# Altium schematic symbol library ICL_connectors_v1.SchLib: 83 symbols
Pins are listed as number, name and electrical type; pins without a type are passive.

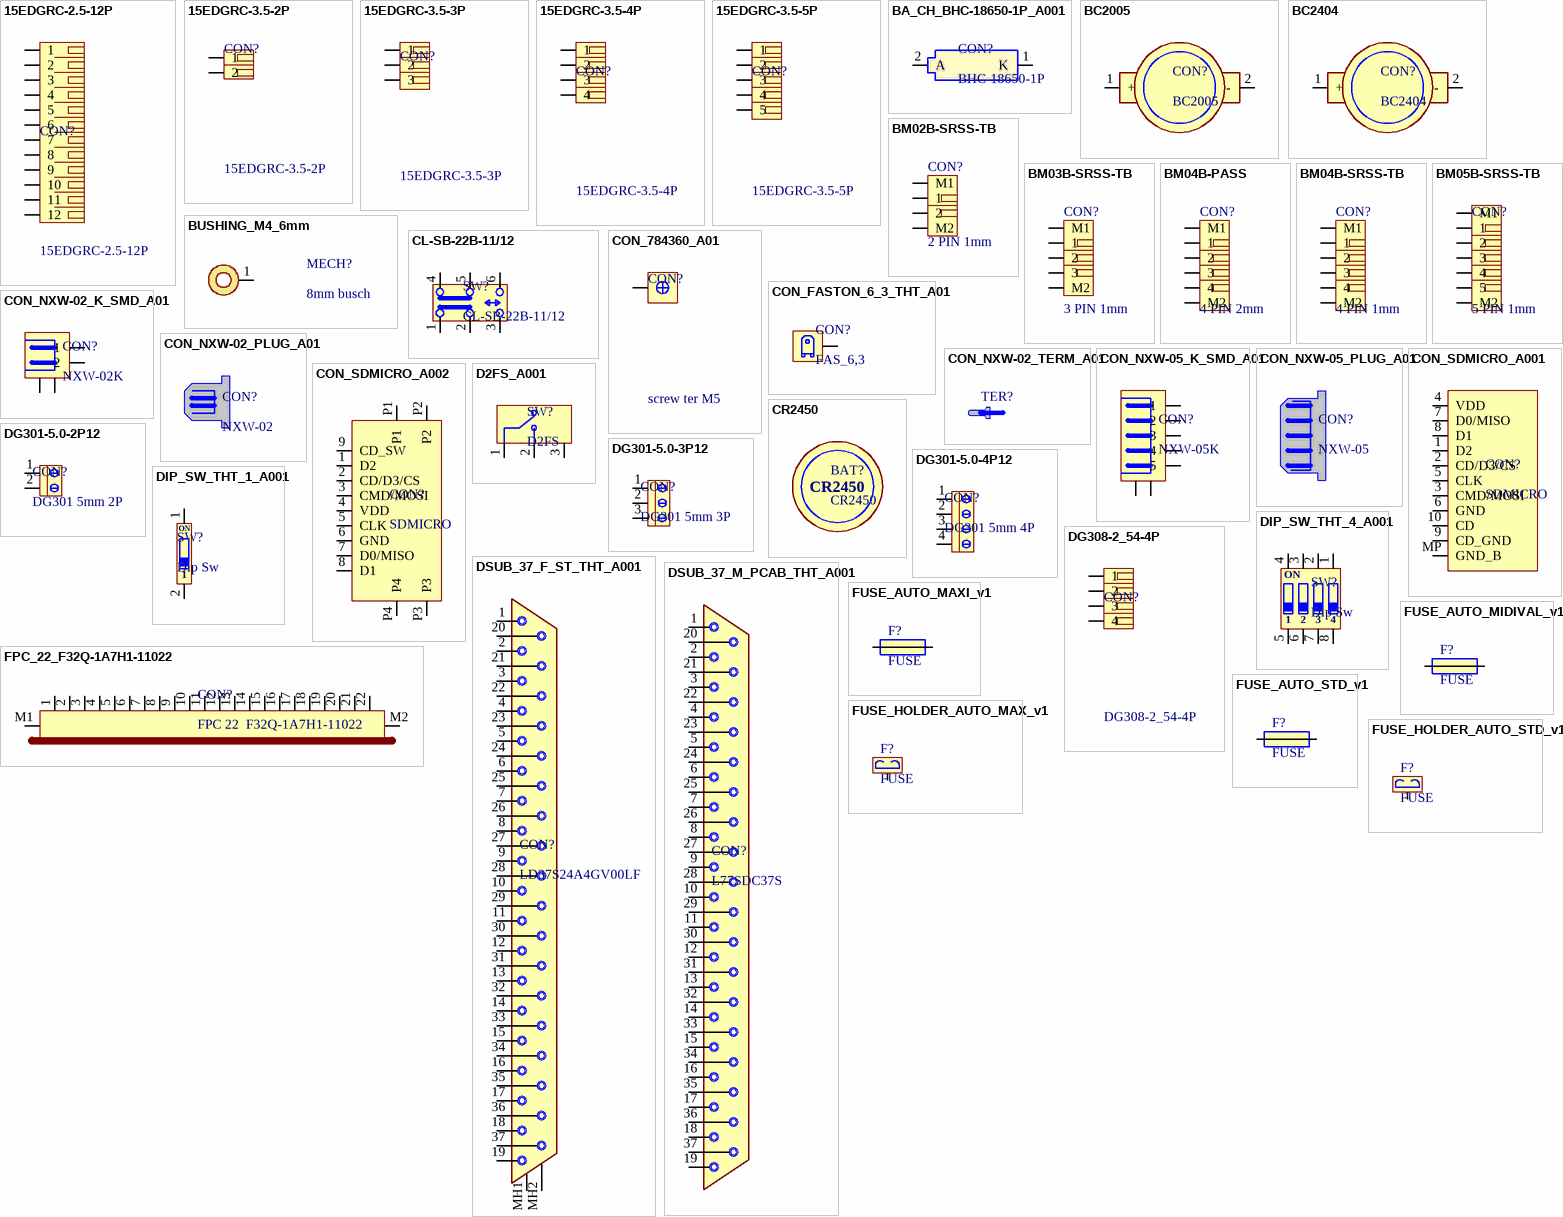
[diagram p0: symbols 15EDGRC-2.5-12P to FUSE_HOLDER_AUTO_STD_v1]

## 15EDGRC-2.5-12P
designator CON?
ICLN: CON_F_THT_2_5_12P_A001
footprint 15EDGRC-2.5-12P (Dexon)
pins: 1, 2, 3, 4, 5, 6, 7, 8, 9, 10, 11, 12

## 15EDGRC-3.5-2P
designator CON?
ICLN: CON_THT_2p_15EDGRC-3.5-2P_A001
footprint 15EDGRC-3.5-02P (Dexon)
pins: 1, 2

## 15EDGRC-3.5-3P
designator CON?
ICLN: CON_THT_3p_15EDGRC-3.5-3P_A001
footprint 15EDGRC-3.5-03P (Dexon)
pins: 1, 2, 3

## 15EDGRC-3.5-4P
designator CON?
ICLN: CON_THT_4p_15EDGRC-3.5-4P_A001
footprint 15EDGRC-3.5-04P (Dexon)
pins: 1, 2, 3, 4

## 15EDGRC-3.5-5P
designator CON?
footprint 15EDGRC-3.5-05P (Dexon)
pins: 1, 2, 3, 4, 5

## BA_CH_BHC-18650-1P_A001
designator CON?, comment BHC-18650-1P
battery holder 18650 1S; ITSN: BA_CH_BHC-18650-1P_THT_A001
footprint BHC-18650-1P (COMF baterry holder 18650 THT 1p)
pins: 1 K, 2 A

## BC2005
designator CON?
smd cr2450 BATTERY HOLDER; ITSN: CON_SMT_CR2450_A001
footprint BC2005 (CR2450)
pins: 1 + (power), 2 - (power)

## BC2404
designator CON?
smd cr2450 BATTERY HOLDER; ITSN: CON_SMT_CR2450_A001
footprint BC2404 (CR2450)
pins: 1 + (power), 2 - (power)

## BM02B-SRSS-TB
designator CON?, comment 2 PIN 1mm
BM02B-SRSS-TB 1MM 2PIN; ITSN: CON_SMT_2PIN_1MM_A001
footprint BM02B-SRSS-TB (JST SH connector 1mm)
pins: 1, 2, M1, M2

## BM03B-SRSS-TB
designator CON?, comment 3 PIN 1mm
BM03B-SRSS-TB 1MM 3PIN; ITSN: CON_SMT_3PIN_1MM_A001
footprint BM03B-SRSS-TB (JST SH connector 1mm)
pins: 1, 2, 3, M1, M2

## BM04B-PASS
designator CON?, comment 4 PIN 2mm
BM04B-PASS-TB 2MM 4PIN; ITSN: nn
footprint BM04B-PASS (JST PA connector 2mm)
pins: 1, 2, 3, 4, M1, M2

## BM04B-SRSS-TB
designator CON?, comment 4 PIN 1mm
BM04B-SRSS-TB 1MM 4PIN; ITSN: CON_SMT_3PIN_1MM_A001
footprint BM04B-SRSS-TB (JST SH connector 1mm)
pins: 1, 2, 3, 4, M1, M2

## BM05B-SRSS-TB
designator CON?, comment 5 PIN 1mm
BM05B-SRSS-TB 1MM 5PIN; ITSN: CON_SMT_5PIN_1MM_A001
footprint BM05B-SRSS-TB (JST SH connector 1mm)
pins: 1, 2, 3, 4, 5, M1, M2

## BUSHING_M4_6mm
designator MECH?, comment 8mm busch
M4 6mm bushing; ICLN: MECHxxx
footprint BUSHING_M4_6mm_SMT_v1 (bushing M4 6mm)
pins: 1

## CL-SB-22B-11/12
designator SW?
ICLN: SW_CL-SB-22B-11_SMD_A001
footprint CL-SB-22B-11/12 (switch side)
pins: 1, 2 C, 3, 4, 5 C, 6

## CON_784360_A01
designator CON?, comment screw ter M5
Screw Mounting Bracket; ICLN: CON_784360_A01
footprint CON_DIEHL_784360_A01 (Screw Mounting Bracket)
pins: 1

## CON_FASTON_6_3_THT_A01
designator CON?, comment FAS_6,3
Faston 6,3mm; ICLN: CON_FAS_6.3_THT_A001
footprint FASTON_6_3_V (Faston 6,3mm pionowy ,sam bez wsowki)
pins: 1

## CON_NXW-02_K_SMD_A01
designator CON?, comment NXW-02K
NXW-02K 2mm SMD; ICLN: CON_NXW-02SMDK_SMD_A001
footprint NXW-02SMDK (2mm angle SMD)
pins: 1, 2, M1, M2

## CON_NXW-02_PLUG_A01
designator CON?, comment NXW-02  (mechanical)
NXW-02 2mm plug, no contact; ICLN: CON_NXW-02PLUG_A001

## CON_NXW-02_TERM_A01
designator TER?, comment NXW-02T  (value not drawn)  (mechanical)
NXW-02 2mm plug, cable terminal; ICLN: CON_NXW-02TERMINAL_A001

## CON_NXW-05_K_SMD_A01
designator CON?, comment NXW-05K
NXW-05K 2mm SMD; ICLN: CON_NXW-05SMDK_SMD_A001
footprint NXW-05SMDK (2mm angle SMD)
pins: 1, 2, 3, 4, 5, M1, M2

## CON_NXW-05_PLUG_A01
designator CON?, comment NXW-05  (mechanical)
NXW-05 2mm plug, no contact; ICLN: CON_NXW-05PLUG_A001

## CON_SDMICRO_A001
designator CON?, comment SDMICRO
MOLEX : 502570-0893; ITSN: CON_MICRO_SD_SMD_A001
footprint SD_micro_MOLEX_5025700893 (MOLEX : 502570-0893)
pins: 1 D2, 2 CD/D3/CS, 3 CMD/MOSI, 4 VDD, 5 CLK, 6 GND, 7 D0/MISO, 8 D1, 9 CD_GND, 10 CD, MP GND_B

## CON_SDMICRO_A002
designator CON?, comment SDMICRO
GCT : MEM2051-00-195-00A; ICLN: CON_MICRO_SD_SMD_A002
footprint SD_micro_GCT_MEM2051-00-195-00A (MOLEX : 502570-0893)
pins: 1 D2, 2 CD/D3/CS, 3 CMD/MOSI, 4 VDD, 5 CLK, 6 GND, 7 D0/MISO, 8 D1, 9 CD_SW, P1, P2, P3, P4

## CR2450
designator BAT?
3V 600mAh Lith.; ITSN: BAT_CR2450_A001
footprint CR2450 (battery CR2450)

## D2FS_A001
designator SW?, comment D2FS
Omron D2FS-FL-N; ITSN: *
footprint D2FS-FL-N_A001 (omron D2FS-FL-Nxx)
pins: 1 COM, 2 NO, 3 NC

## DG301-5.0-2P12
designator CON?, comment DG301 5mm 2P
ICLN: CON_DG301_5.0_2P_A001
footprint DG301-5_0-2P12
pins: 1, 2

## DG301-5.0-3P12
designator CON?, comment DG301 5mm 3P
ICLN: CON_DG301_5.0_3P_A001
footprint DG301-5_0-3P12
pins: 1, 2, 3

## DG301-5.0-4P12
designator CON?, comment DG301 5mm 4P
ICLN: CON_DG301_5.0_4P_A001
footprint DG301-5_0-4P12
pins: 1, 2, 3, 4

## DG308-2_54-4P
designator CON?
zlacze srubowe 4x 2,54mm
footprint DG308-2_54-4P
pins: 1, 2, 3, 4

## DIP_SW_THT_1_A001
designator SW?, comment Dip Sw
ICLN: DIP_SW_THT_1_A001
footprint DIPSW_1_THT_A001
pins: 1, 2
text: ON

## DIP_SW_THT_4_A001
designator SW?, comment Dip Sw
ICLN: DIP_SW_THT_4_A001
footprint DIPSW_4_THT_A001
pins: 1, 2, 3, 4, 5, 6, 7, 8
text: ON

## DSUB_37_F_ST_THT_A001
designator CON?, comment LD37S24A4GV00LF
DSUB 37 pin strate THT female; ICLN: PIN_HEADER_1x4_2,5mm_L5,4_THT_A001
footprint DSUB37_V_THT_A001 (Amphenoll LD37S24A4GV00LF)
pins: 1, 2, 3, 4, 5, 6, 7, 8, 9, 10, 11, 12, 13, 14, 15, 16, 17, 18, 19, 20, 21, 22, 23, 24, 25, 26, 27, 28, 29, 30, 31, 32, 33, 34, 35, 36, 37, MH1, MH2

## DSUB_37_M_PCAB_THT_A001
designator CON?, comment L77SDC37S
DSUB 37 pin strate solder cup male; ICLN: nn
footprint DSUB37_PC_CABLE_A001 (Amphenoll L77SDC37S)
pins: 1, 2, 3, 4, 5, 6, 7, 8, 9, 10, 11, 12, 13, 14, 15, 16, 17, 18, 19, 20, 21, 22, 23, 24, 25, 26, 27, 28, 29, 30, 31, 32, 33, 34, 35, 36, 37

## FPC_22_F32Q-1A7H1-11022
designator CON?, comment FPC 22  F32Q-1A7H1-11022
F32Q-1A7H1-11022; ITSN: CON_FPC22_05_TOP_A001
footprint F32Q-1A7H1-11022 (FPC top 22pin e - 0,5mm)
pins: 1, 2, 3, 4, 5, 6, 7, 8, 9, 10, 11, 12, 13, 14, 15, 16, 17, 18, 19, 20, 21, 22, M1, M2

## FUSE_AUTO_MAXI_v1
designator F?, comment FUSE
MAXI. automotive fuse; ICLN: FUS_AMAXI_A001
footprint FUSE_AUT_MAXI_v1 (maxi fuse automotive)

## FUSE_AUTO_MIDIVAL_v1
designator F?, comment FUSE
MIDIVAL automotive fuse; ICLN: FUS_AMIDIVAL_A001
footprint FUSE_AUT_MIDIVAL_v1 (MIDIVAL  fuse automotive)

## FUSE_AUTO_STD_v1
designator F?, comment FUSE
std. automotive fuse; ICLN: FUS_ASTD_A001
footprint FUSE_AUT_STD_v1 (std fuse automotive)

## FUSE_HOLDER_AUTO_MAX_v1
designator F?, comment FUSE
MAX. automotive fuse holder; ICLN: FUS_AMAX_HOLD_A001
footprint FUSE_AUT_STD_3555_v1 (std automotive fuse holder (1/2))
pins: 1

## FUSE_HOLDER_AUTO_STD_v1
designator F?, comment FUSE
std. automotive fuse holder; ICLN: FUS_ASTD_HOLD_A001
footprint FUSE_AUT_STD_3522_v1 (std automotive fuse holder (1/2))
pins: 1

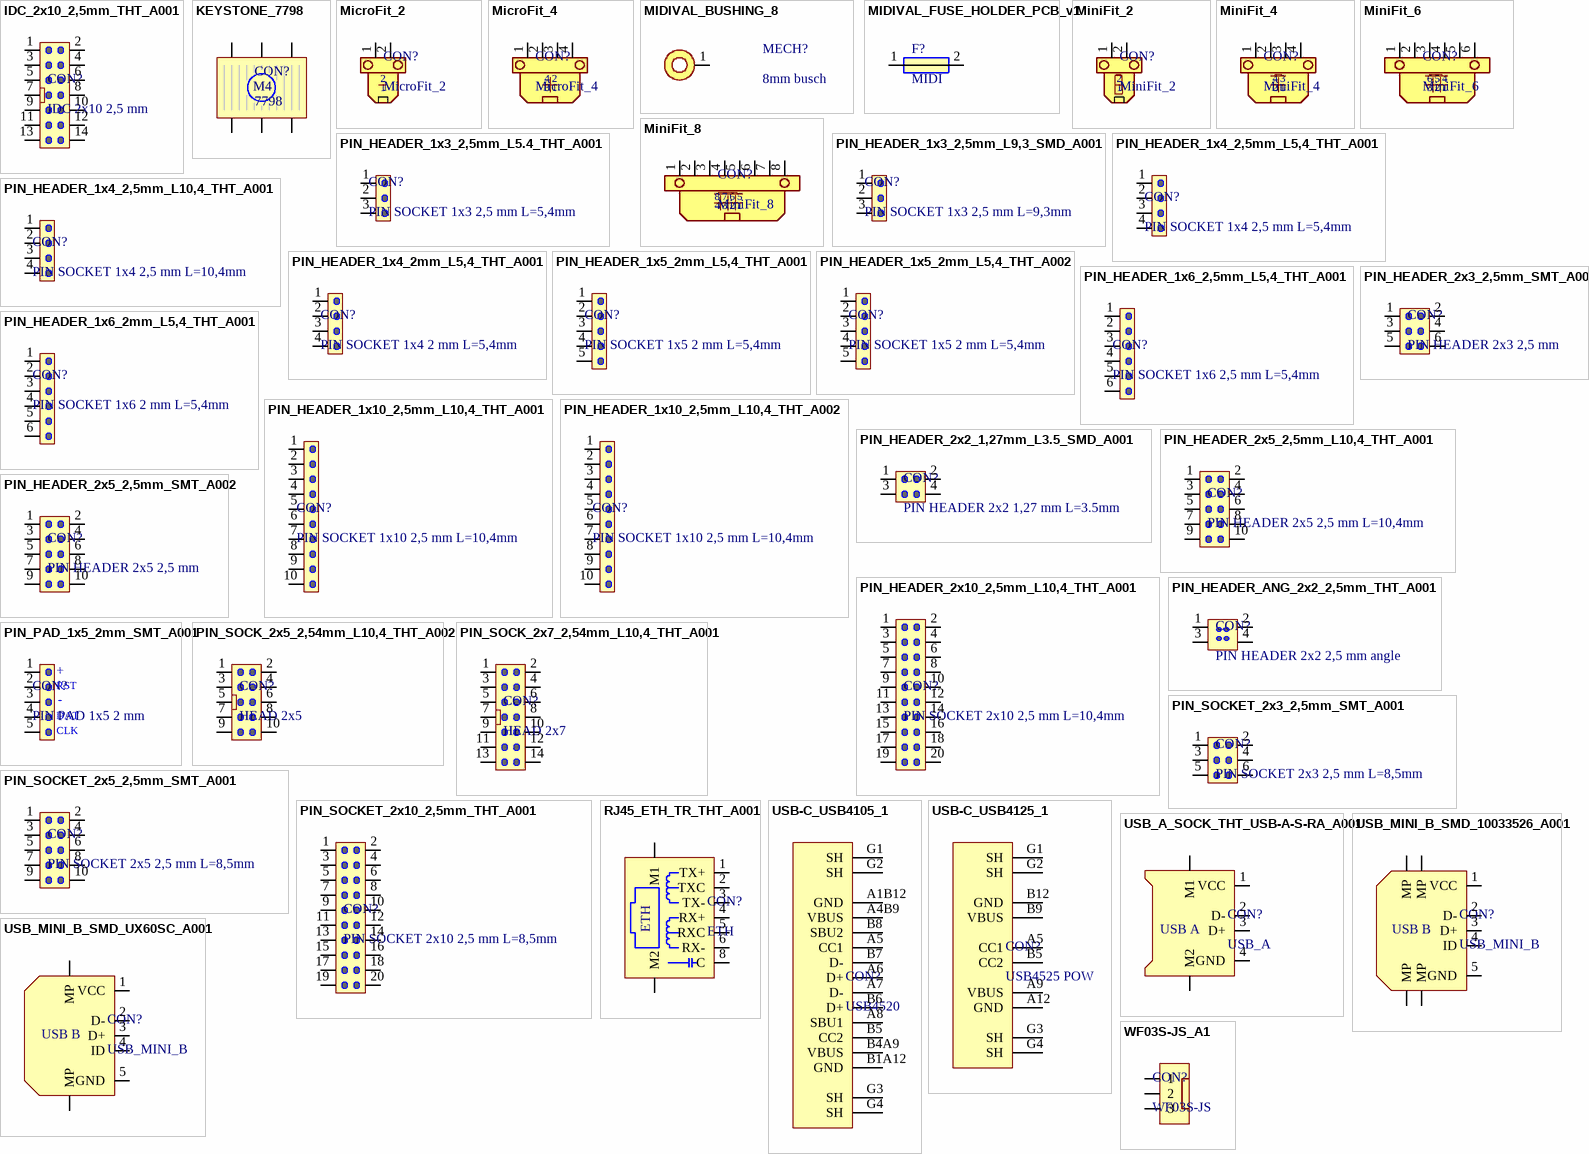
[diagram p1: symbols IDC_2x10_2,5mm_THT_A001 to WF03S-JS_A1]

## IDC_2x10_2,5mm_THT_A001
designator CON?, comment IDC 2x10 2,5 mm
footprint IDC_2.54mm_2x7_THT
pins: 1, 2, 3, 4, 5, 6, 7, 8, 9, 10, 11, 12, 13, 14

## KEYSTONE_7798
designator CON?, comment 7798
M4 30A THT; ICLN: CON_M4_30A_A001
footprint KEYSTONE_7798 (M4 30A)
pins: 1, 2, 3, 4, 5, 6
text: M4

## MicroFit_2
designator CON?
footprint G-MicroFit-2_GK (Gniazdo kontowe MicroiFit 2 piny)
pins: 1, 2

## MicroFit_4
designator CON?
footprint G-MicroFit-4_GK (Gniazdo kontowe MiniFit 4 piny)
pins: 1, 2, 3, 4

## MIDIVAL_BUSHING_8
designator MECH?, comment 8mm busch
MIDIVAL fuse holder bushing; ICLN: MECHxxx
footprint MIDIVAL_BUSHING_8_v1 (bushing for fuse holder)
pins: 1

## MIDIVAL_FUSE_HOLDER_PCB_v1
designator F?, comment MIDI
MIDI VAL fuse; ICLN: FUS_MIDI_A001
footprint MIDIVAL_HOLDER_v1 (midival fuse holder)
pins: 1, 2

## MiniFit_2
designator CON?
footprint G_MINIFIT_JR_2PK
pins: 1, 2

## MiniFit_4
designator CON?
footprint G_MINIFIT_JR_4PK
pins: 1, 2, 3, 4

## MiniFit_6
designator CON?
footprint G_MINIFIT_JR_6PK
pins: 1, 2, 3, 4, 5, 6

## MiniFit_8
designator CON?
footprint G_MINIFIT_JR_8PK
pins: 1, 2, 3, 4, 5, 6, 7, 8

## PIN_HEADER_1x3_2,5mm_L5.4_THT_A001
designator CON?, comment PIN SOCKET 1x3 2,5 mm L=5,4mm
ICLN: PIN_HEADER_1x3_2,5mm_L5,4_THT_A001
footprint PIN_HEADER_1x3_2,5mm_L5_4_THT_A001
pins: 1, 2, 3

## PIN_HEADER_1x3_2,5mm_L9,3_SMD_A001
designator CON?, comment PIN SOCKET 1x3 2,5 mm L=9,3mm
ICLN: PIN_HEADER_1x3_2,5mm_L9,3_SMD_A001
footprint PIN_HEADER_1x3_2,5mm_L9,3_SMD_A001
pins: 1, 2, 3

## PIN_HEADER_1x4_2,5mm_L5,4_THT_A001
designator CON?, comment PIN SOCKET 1x4 2,5 mm L=5,4mm
ICLN: PIN_HEADER_1x4_2,5mm_L5,4_THT_A001
footprint PIN_HEADER_1x4_2,5mm_L5_4_THT_A001
pins: 1, 2, 3, 4

## PIN_HEADER_1x4_2,5mm_L10,4_THT_A001
designator CON?, comment PIN SOCKET 1x4 2,5 mm L=10,4mm
ICLN: PIN_HEADER_1x4_2,5mm_L10,4_THT_A001
footprint PIN_HEADER_1x4_2,5mm_L10,4_THT_A001
pins: 1, 2, 3, 4

## PIN_HEADER_1x4_2mm_L5,4_THT_A001
designator CON?, comment PIN SOCKET 1x4 2 mm L=5,4mm
ICLN: PIN_HEADER_1x5_2mm_L5,4_THT_A001
footprint PIN_HEADER_1x4_2mm_L5_4_THT_A001
pins: 1, 2, 3, 4

## PIN_HEADER_1x5_2mm_L5,4_THT_A001
designator CON?, comment PIN SOCKET 1x5 2 mm L=5,4mm
ICLN: PIN_HEADER_1x5_2mm_L5,4_THT_A001
footprint PIN_HEADER_1x5_2mm_L5_4_THT_A001
pins: 1, 2, 3, 4, 5

## PIN_HEADER_1x5_2mm_L5,4_THT_A002
designator CON?, comment PIN SOCKET 1x5 2 mm L=5,4mm
ICLN: PIN_HEADER_1x5_2mm_L5,4_THT_A001
footprint PIN_HEADER_1x5_2mm_L5_4_THT_A002
pins: 1, 2, 3, 4, 5

## PIN_HEADER_1x6_2,5mm_L5,4_THT_A001
designator CON?, comment PIN SOCKET 1x6 2,5 mm L=5,4mm
ICLN: PIN_HEADER_1x6_2,5mm_L5,4_THT_A001
footprint PIN_HEADER_1x6_2,5mm_L5_4_THT_A001
pins: 1, 2, 3, 4, 5, 6 64

## PIN_HEADER_1x6_2mm_L5,4_THT_A001
designator CON?, comment PIN SOCKET 1x6 2 mm L=5,4mm
ICLN: PIN_HEADER_1x6_2mm_L5,4_THT_A001
footprint PIN_HEADER_1x6_2mm_L5_4_THT_A001
pins: 1, 2, 3, 4, 5, 6

## PIN_HEADER_1x10_2,5mm_L10,4_THT_A001
designator CON?, comment PIN SOCKET 1x10 2,5 mm L=10,4mm
footprint PIN_HEADER_1x10_2,5mm_L10,4_THT_A001
pins: 1, 2, 3, 4, 5, 6, 7, 8, 9, 10

## PIN_HEADER_1x10_2,5mm_L10,4_THT_A002
designator CON?, comment PIN SOCKET 1x10 2,5 mm L=10,4mm
ICLN: PIN_HEADER_1x10_2,5mm_L10,4_THT_A002
footprint PIN_HEADER_1x10_2,5mm_L10,4_THT_A002
pins: 1, 2, 3, 4, 5, 6, 7, 8, 9, 10

## PIN_HEADER_2x2_1,27mm_L3.5_SMD_A001
designator CON?, comment PIN HEADER 2x2 1,27 mm L=3.5mm
footprint PIN_HEADER_2x2_1,27mm_L3.5_SMT_A001
pins: 1, 2, 3, 4

## PIN_HEADER_2x3_2,5mm_SMT_A002
designator CON?, comment PIN HEADER 2x3 2,5 mm
ICLN: CON_PIN_HEA_2x3_SMT_2_54_A002
footprint PIN_HEADER_2x3_2,5mm_SMT_A002
pins: 1, 2, 3, 4, 5, 6

## PIN_HEADER_2x5_2,5mm_L10,4_THT_A001
designator CON?, comment PIN HEADER 2x5 2,5 mm L=10,4mm
footprint PIN_HEADER_2x5_2,5mm_L10,4_THT_A001
pins: 1, 2, 3, 4, 5, 6, 7, 8, 9, 10

## PIN_HEADER_2x5_2,5mm_SMT_A002
designator CON?, comment PIN HEADER 2x5 2,5 mm
ICLN: CON_PIN_HEA_2x5_SMT_2_54_A002
footprint PIN_HEADER_2x5_2,5mm_SMT_A002
pins: 1, 2, 3, 4, 5, 6, 7, 8, 9, 10

## PIN_HEADER_2x10_2,5mm_L10,4_THT_A001
designator CON?, comment PIN SOCKET 2x10 2,5 mm L=10,4mm
footprint PIN_HEADER_2x10_2,5mm_L10,4_THT_A001
pins: 1, 2, 3, 4, 5, 6, 7, 8, 9, 10, 11, 12, 13, 14, 15, 16, 17, 18, 19, 20

## PIN_HEADER_ANG_2x2_2,5mm_THT_A001
designator CON?, comment PIN HEADER 2x2 2,5 mm angle
footprint PIN_HEADER_ANG_2x2_2,5mm_THT_A001
pins: 1, 2, 3, 4

## PIN_PAD_1x5_2mm_SMT_A001
designator CON?, comment PIN PAD 1x5 2 mm
ICLN: NA
footprint PIN_PAD_1x5_2mm_SMT_A01 (programing pcb pad)
pins: 1, 2, 3, 4, 5
text: +; RST; -; DAT; CLK

## PIN_SOCK_2x5_2,54mm_L10,4_THT_A002
designator CON?, comment HEAD 2x5
PIN HEADER 2x5 2,54 mm L=10,4mm; ICLN: CON_PIN_HEA_2x5_THT_2_54_A002
footprint PIN_SOCKET_2x5_2,54mm_L10,4_THT_A002
pins: 1, 2, 3, 4, 5, 6, 7, 8, 9, 10

## PIN_SOCK_2x7_2,54mm_L10,4_THT_A001
designator CON?, comment HEAD 2x7
PIN HEADER 2x7 2,54 mm L=10,4mm; ICLN: CON_PIN_HEA_2x7_THT_2_54_A001
footprint PIN_SOCKET_2x7_2,54mm_L10,4_THT_A001
pins: 1, 2, 3, 4, 5, 6, 7, 8, 9, 10, 11, 12, 13, 14

## PIN_SOCKET_2x3_2,5mm_SMT_A001
designator CON?, comment PIN SOCKET 2x3 2,5 mm L=8,5mm
ICLN: CON_PIN_SOCK_2x3_SMT_2_54_A001
footprint PIN_SOCKET_2x3_2,5mm_L8,5_THT_A001
pins: 1, 2, 3, 4, 5, 6

## PIN_SOCKET_2x5_2,5mm_SMT_A001
designator CON?, comment PIN SOCKET 2x5 2,5 mm L=8,5mm
ICLN: CON_PIN_SOCK_2x5_SMT_2_54_A001
footprint PIN_SOCKET_2x5_2,5mm_L8,5_THT_A001
pins: 1, 2, 3, 4, 5, 6, 7, 8, 9, 10

## PIN_SOCKET_2x10_2,5mm_THT_A001
designator CON?, comment PIN SOCKET 2x10 2,5 mm L=8,5mm
footprint PIN_SOCKET_2x10_2,5mm_L8,5_THT_A001
pins: 1, 2, 3, 4, 5, 6, 7, 8, 9, 10, 11, 12, 13, 14, 15, 16, 17, 18, 19, 20

## RJ45_ETH_TR_THT_A001
designator CON?, comment ETH
ETH + TR 100Tx; ICLN: RJ45_ETH_TR_THT_A001
footprint ETH_TR_RJ45-TRAFO_A001 (Ethernet gniazdo 100Tx)
pins: 1 TX+, 2 TXC, 3 TX-, 4 RX+, 5 RXC, 6 RX-, 8 C, M1, M2

## USB-C_USB4105_1
designator CON?, comment USB4520
ICLN: CON_USB_C_REC_USB4105_A001
footprint USB4105_xx_a_060 (usb C SMD/THT top)
pins: A1B12 GND, A4B9 VBUS, A5 CC1, A6 D+, A7 D-, A8 SBU1, B1A12 GND, B4A9 VBUS, B5 CC2, B6 D+, B7 D-, B8 SBU2, G1 SH, G2 SH, G3 SH, G4 SH

## USB-C_USB4125_1
designator CON?, comment USB4525 POW
Power onlu USB C; ICLN: CON_USB_C_REC_USB4125_A001
footprint USB4125_xx_A_0190 (usb C SMD/THT top power only)
pins: A5 CC1, A9 VBUS, A12 GND, B5 CC2, B9 VBUS, B12 GND, G1 SH, G2 SH, G3 SH, G4 SH

## USB_A_SOCK_THT_USB-A-S-RA_A001
designator CON?, comment USB_A
USB A Socket; ICLN: CON_USB_A_THT_USB-A-S-RA_A001
footprint USB-A-S-RA (USB  A Gniazdo THT)
pins: 1 VCC, 2 D-, 3 D+, 4 GND, M1, M2
text: USB A

## USB_MINI_B_SMD_10033526_A001
designator CON?, comment USB_MINI_B
USB Mini B SMD Amphenol; ICLN: CON_USB_B_MINI_10033526_A001
footprint USB_MINI_SMD_AMPH_10033526 (Amhenol 10033526-N3212MLF USBnini B smd)
pins: 1 VCC, 2 D-, 3 D+, 4 ID, 5 GND, M1 MP, M2 MP, M3 MP, M4 MP
text: USB B

## USB_MINI_B_SMD_UX60SC_A001
designator CON?, comment USB_MINI_B
USB Mini B SMD Hirose; ICLN: CON_USB_B_MINI_UX60SC_A001
footprint UX60SC-B_mini_A001 (nini B smd)
pins: 1 VCC, 2 D-, 3 D+, 4 ID, 5 GND, M1 MP, M2 MP
text: USB B

## WF03S-JS_A1
designator CON?, comment WF03S-JS
ICLN: CON_WF03S_JS_THT_A001
footprint WF03S-JS (2.54mm  3p WHITE)
pins: 1, 2, 3

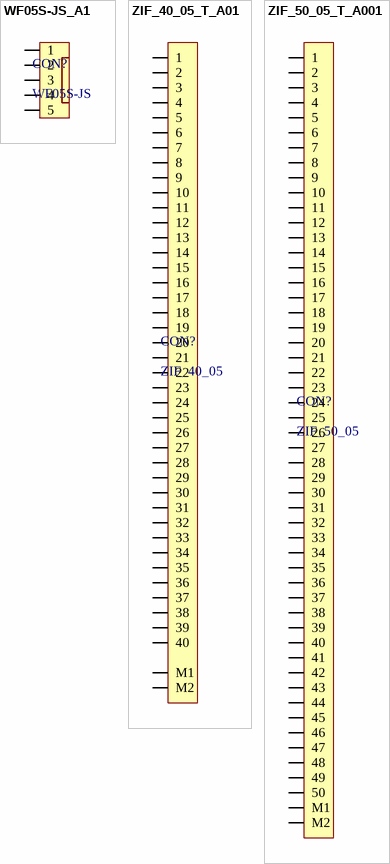
[diagram p2: symbols WF05S-JS_A1 to ZIF_50_05_T_A001]

## WF05S-JS_A1
designator CON?, comment WF05S-JS
ICLN: CON_WF05S_JS_THT_A001
footprint WF05S-JS (2.54mm  5p WHITE)
pins: 1, 2, 3, 4, 5

## ZIF_40_05_T_A01
designator CON?, comment ZIF_40_05
ICLN: CON_ZIF_40_05_TOP_A001
footprint ZIF_40_05_T_A01 (AMPHENOL_62684-402100ALF)
pins: 1, 2, 3, 4, 5, 6, 7, 8, 9, 10, 11, 12, 13, 14, 15, 16, 17, 18, 19, 20, 21, 22, 23, 24, 25, 26, 27, 28, 29, 30, 31, 32, 33, 34, 35, 36, 37, 38, 39, 40, M1, M2

## ZIF_50_05_T_A001
designator CON?, comment ZIF_50_05
Top; ICLN: CON_ZIF_50_05_TOP_A001
footprint ZIF_50_05 (Top contact 50 pin 0,5mm zif connector)
pins: 1, 2, 3, 4, 5, 6, 7, 8, 9, 10, 11, 12, 13, 14, 15, 16, 17, 18, 19, 20, 21, 22, 23, 24, 25, 26, 27, 28, 29, 30, 31, 32, 33, 34, 35, 36, 37, 38, 39, 40, 41, 42, 43, 44, 45, 46, 47, 48, 49, 50, M1, M2